# EAGLE library part AOZ1282CI (library Power > Switching Controllers)
EZBuck™ 1.2A Simple Buck Regulator
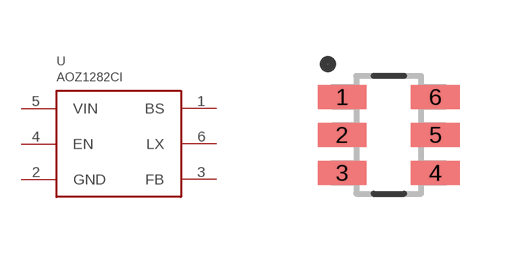
[diagram p7: symbol with the pads of SOT-23-6N; footprint SOT-23-6N]

Designator prefix U

## AOZ1282CI (AVAILABILITY: Unavailable; DESCRIPTION: 1.2A, 4.5V~36V, EZBuck DC-DC Buck Regulator; MF: Alpha &; MP: AOZ1282CI; PACKAGE: SOT-23 Alpha &amp; Omega Semiconductor; PRICE: None)  [SOT-23-6N]
1  BS
2  GND
3  FB
4  EN
5  VIN
6  LX

## Footprint SOT-23-6N (pad centres in mm)
smd 1.219 x 0.6: 1 -1.168,0.95; 2 -1.168,0; 3 -1.168,-0.95; 4 1.168,-0.95; 5 1.168,0; 6 1.168,0.95